# Altium integrated library Analog Devices Data Converters Analog-to-Digital Converters.IntLib: 2400 symbols (part 303 of 338)
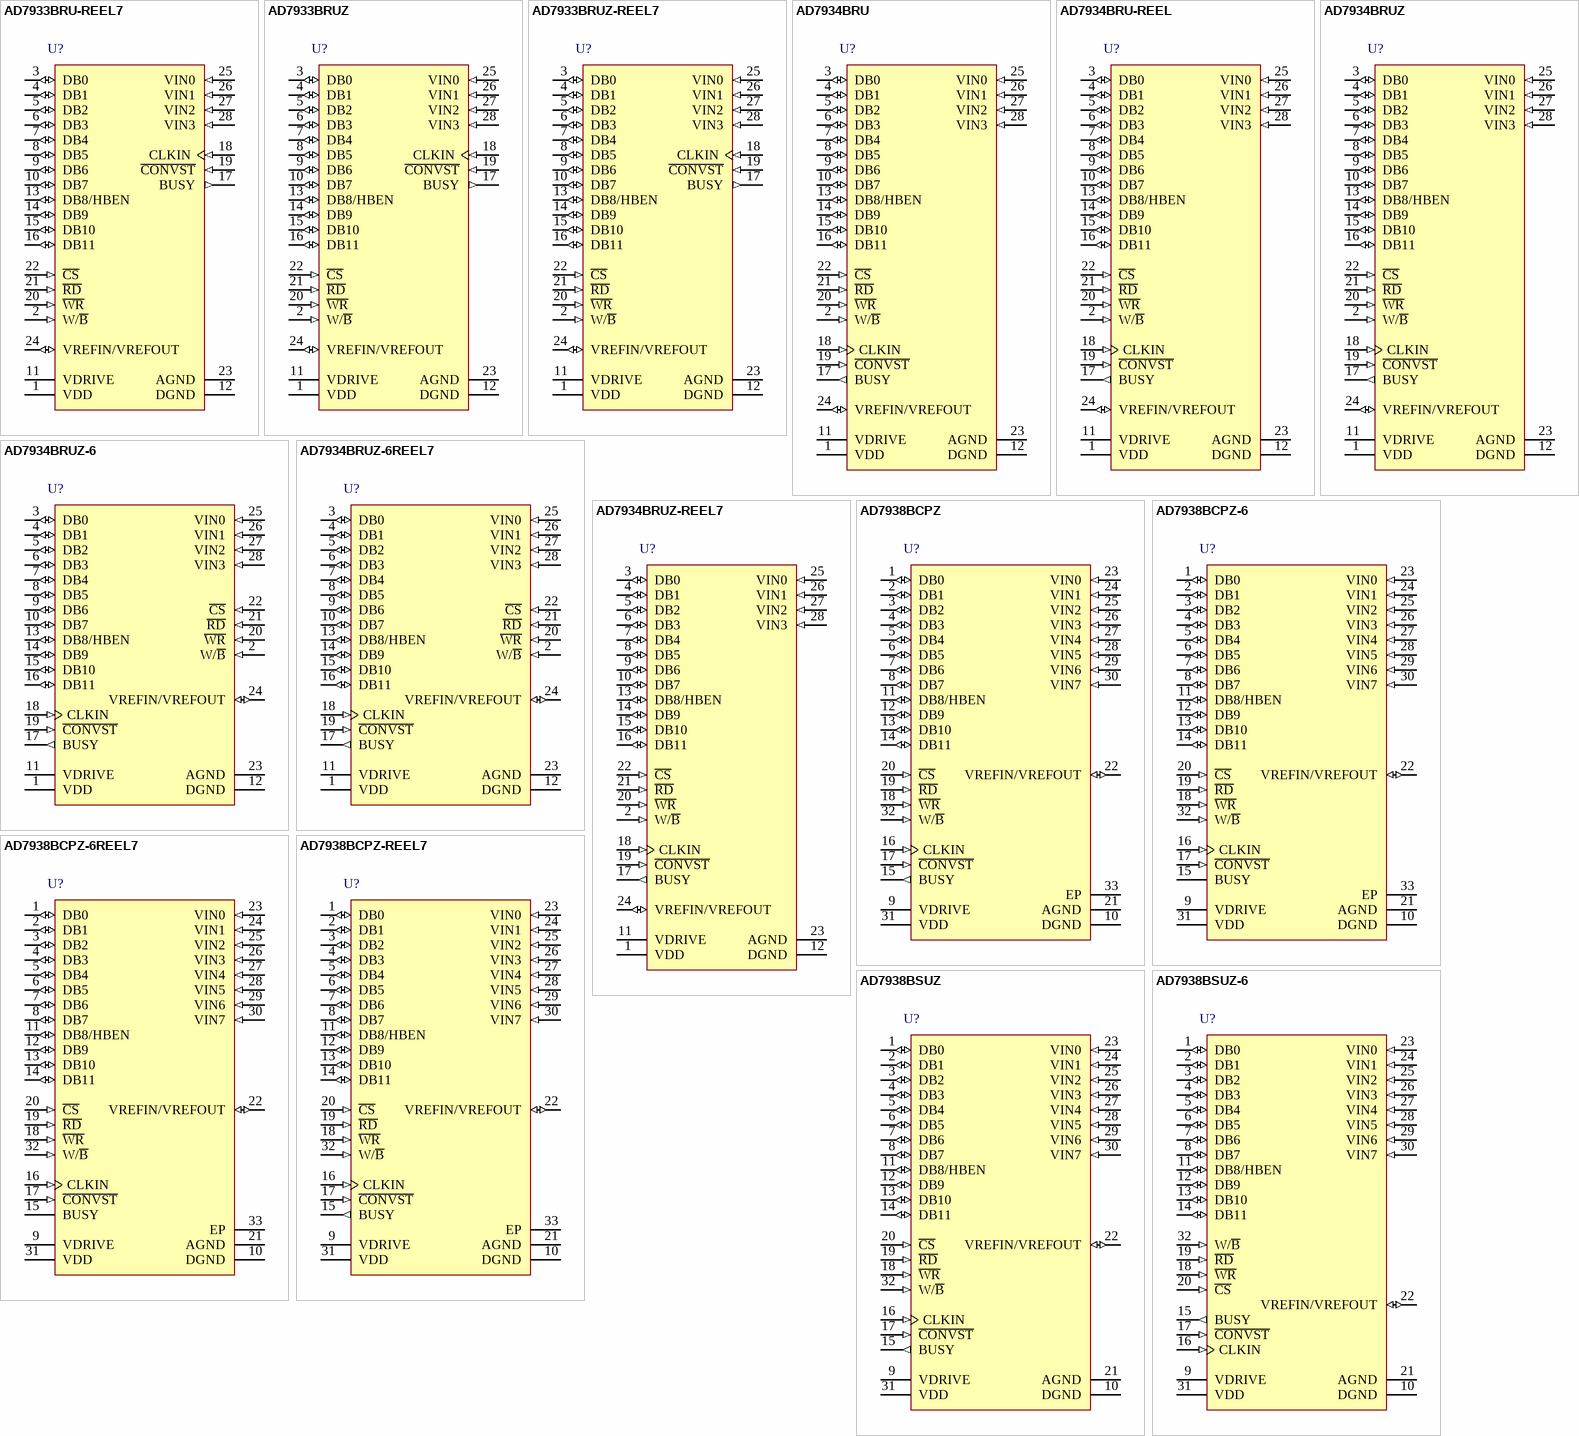
[diagram p419: symbols AD7933BRU-REEL7 to AD7938BSUZ-6]

## AD7933BRUZ
designator U?
Quad 10-Bit Analog-to-Digital Converter with Byte, Parallel Interface and Sequencer, 1.5MSPS, -40 to +85 degC, RU-28, Pb-Free, Tube; Part Number: AD7933; Manufacturer: Analog Devices; Resolution (Bits): 10; Channels: 4; Throughput Rate (SPS): 1.5M; DatasheetVersion: Rev.B; PackageVersion: 2005; PackageReference: RU-28; PackageDescription: 28-Lead Thin Shrink Small Outline Package [TSSOP]; Interface: Byte, Par; RoHS: Y; Packing: Tube; Mounting Technology: Surface Mount; Code_JEDEC: MO-153-AE; ComponentLink1Description: Manufacturer URL; ComponentLink1URL: http://www.analog.com/en/index.html; ComponentLink2Description: Datasheet; ComponentLink2URL: http://www.analog.com/static/imported-files/data_sheets/AD7933_7934.pdf; ComponentLink3Description: Package Specification; ComponentLink3URL: http://www.analog.com/static/imported-files/packages/249854663RU_28.pdf; ComponentLink4Description: Product URL; ComponentLink4URL: http://www.analog.com/en/analog-to-digital-converters/ad-converters/ad7933/products/product.html
footprint RU-28_N (TSOP, 28-Leads, Body 9.7x4.4mm, Pitch 0.65mm, IPC Medium Density)
footprint RU-28_L (TSOP, 28-Leads, Body 9.7x4.4mm, Pitch 0.65mm, IPC High Density)
footprint RU-28_M (TSOP, 28-Leads, Body 9.7x4.4mm, Pitch 0.65mm, IPC Low Density)
pins: 1 VDD (power) "Power Supply Input. The VDD range for the AD7933/AD7934 is from 2.7 V to 5.25 V. Decouple the supply to AGND with a 0.1 uF capacitor and a 10 uF tantalum capacitor.", 2 W/~{B} (in) "Word/Byte Input. When this input is logic high, word transfer mode is enabled, and data is transferred to and from the AD7933/AD7934 in 10-bit words on Pin DB2 to Pin DB11, or in 12-bit words on Pin DB0 to Pin DB11. When (See Datasheet)", 3 DB0 (io) "Data Bit 0 to Data Bit 7. Three-state parallel digital I/O pins that provide the conversion result and allow programming of the control register. These pins are controlled by C\S\, R\D\, and W\R\. The logic high/low voltage (See Datasheet)", 4 DB1 (io) "Data Bit 0 to Data Bit 7. Three-state parallel digital I/O pins that provide the conversion result and allow programming of the control register. These pins are controlled by C\S\, R\D\, and W\R\. The logic high/low voltage (See Datasheet)", 5 DB2 (io) "Data Bit 0 to Data Bit 7. Three-state parallel digital I/O pins that provide the conversion result and allow programming of the control register. These pins are controlled by C\S\, R\D\, and W\R\. The logic high/low voltage (See Datasheet)", 6 DB3 (io) "Data Bit 0 to Data Bit 7. Three-state parallel digital I/O pins that provide the conversion result and allow programming of the control register. These pins are controlled by C\S\, R\D\, and W\R\. The logic high/low voltage (See Datasheet)", 7 DB4 (io) "Data Bit 0 to Data Bit 7. Three-state parallel digital I/O pins that provide the conversion result and allow programming of the control register. These pins are controlled by C\S\, R\D\, and W\R\. The logic high/low voltage (See Datasheet)", 8 DB5 (io) "Data Bit 0 to Data Bit 7. Three-state parallel digital I/O pins that provide the conversion result and allow programming of the control register. These pins are controlled by C\S\, R\D\, and W\R\. The logic high/low voltage (See Datasheet)", 9 DB6 (io) "Data Bit 0 to Data Bit 7. Three-state parallel digital I/O pins that provide the conversion result and allow programming of the control register. These pins are controlled by C\S\, R\D\, and W\R\. The logic high/low voltage (See Datasheet)", 10 DB7 (io) "Data Bit 0 to Data Bit 7. Three-state parallel digital I/O pins that provide the conversion result and allow programming of the control register. These pins are controlled by C\S\, R\D\, and W\R\. The logic high/low voltage (See Datasheet)", 11 VDRIVE (power) "Logic Power Supply Input. The voltage supplied at this pin determines at what voltage the parallel interface of the AD7933/AD7934 operates. Decouple this pin to DGND. The voltage at this pin may be different to that at VDD (See Datasheet)", 12 DGND (power) "Digital Ground. This is the ground reference point for all digital circuitry on the AD7933/AD7934. Connect this pin to the DGND plane of a system. The DGND and AGND voltages should ideally be at the same potential and must (See Datasheet)", 13 DB8/HBEN (io) "Data Bit 8/High Byte Enable. When W/B\ is high, this pin acts as Data Bit 8, a three-state I/O pin that is controlled  by C\S\, R\D\, and W\R\. When W/B\  is low, this pin acts as the high byte enable pin. When HBEN is low, (See Datasheet)", 14 DB9 (io) "Data Bit 9 to Data Bit 11. Three-state parallel digital I/O pins that provide the conversion result and also allow the control register to be programmed in word mode. These pins are controlled by C\S\, R\D\, and W\R\. The (See Datasheet)", 15 DB10 (io) "Data Bit 9 to Data Bit 11. Three-state parallel digital I/O pins that provide the conversion result and also allow the control register to be programmed in word mode. These pins are controlled by C\S\, R\D\, and W\R\. The (See Datasheet)", 16 DB11 (io) "Data Bit 9 to Data Bit 11. Three-state parallel digital I/O pins that provide the conversion result and also allow the control register to be programmed in word mode. These pins are controlled by C\S\, R\D\, and W\R\. The (See Datasheet)", 17 BUSY (out) "Busy Output. This is the logic output indicating the status of the conversion. The BUSY output goes high following the falling edge of C\O\N\V\S\T\ and stays high for the duration of the conversion. Once the conversion is (See Datasheet)", 18 CLKIN (in) "Master Clock Input. The clock source for the conversion process is applied to this pin. Conversion time for the AD7933/AD7934 takes 13 clock cycles + t2. The frequency of the master clock input therefore determines the (See Datasheet)", 19 ~{CONVST} (in) "Conversion Start Input. A falling edge on C\O\N\V\S\T\ initiates a conversion. The track-and-hold goes from track to hold mode on the falling edge of C\O\N\V\S\T\, and the conversion process is initiated at this point. (See Datasheet)", 20 ~{WR} (in) "Write Input. Active low logic input used in conjunction with C\S\ to write data to the control register.", 21 ~{RD} (in) "Read Input. Active low logic input used in conjunction with C\S\ to access the conversion result. The conversion result is placed on the data bus following the falling edge of R\D\  read while C\S\  is low", 22 ~{CS} (in) "Chip Select. Active low logic input used in conjunction with R\D\ and W\R\ to read conversion data or write data to the control register.", 23 AGND (power) "Analog Ground. This is the ground reference point for all analog circuitry on the AD7933/AD7934. All analog input signals and any external reference signal should be referred to this AGND voltage. The AGND and DGND voltages (See Datasheet)", 24 VREFIN/VREFOUT (io) "Reference Input/Output. This pin is connected to the internal reference and is the reference source for the ADC.The nominal internal reference voltage is 2.5 V, and this appears at this pin. It is recommended to decouple the (See Datasheet)", 25 VIN0 (in) "Analog Input 0 to Analog Input 3. Four analog input channels that are multiplexed into the on-chip track-and-hold. The analog inputs can be programmed as four single-ended inputs, two fully differential pairs, or two pseudo (See Datasheet)", 26 VIN1 (in) "Analog Input 0 to Analog Input 3. Four analog input channels that are multiplexed into the on-chip track-and-hold. The analog inputs can be programmed as four single-ended inputs, two fully differential pairs, or two pseudo (See Datasheet)", 27 VIN2 (in) "Analog Input 0 to Analog Input 3. Four analog input channels that are multiplexed into the on-chip track-and-hold. The analog inputs can be programmed as four single-ended inputs, two fully differential pairs, or two pseudo (See Datasheet)", 28 VIN3 (in) "Analog Input 0 to Analog Input 3. Four analog input channels that are multiplexed into the on-chip track-and-hold. The analog inputs can be programmed as four single-ended inputs, two fully differential pairs, or two pseudo (See Datasheet)"